# Altium footprint library MKS_Gen_Lib1.PcbLib: 7 footprints
Each footprint in its own frame and in the unit in brackets; x right, y up, seen from the top. Pads: shape width x height; smd on the part's side, far side on the other; paste and mask are expansions set on the pad; w line width, h text height; cw(c..) or ccw(c..) is an arc to the next point about the centre after c.
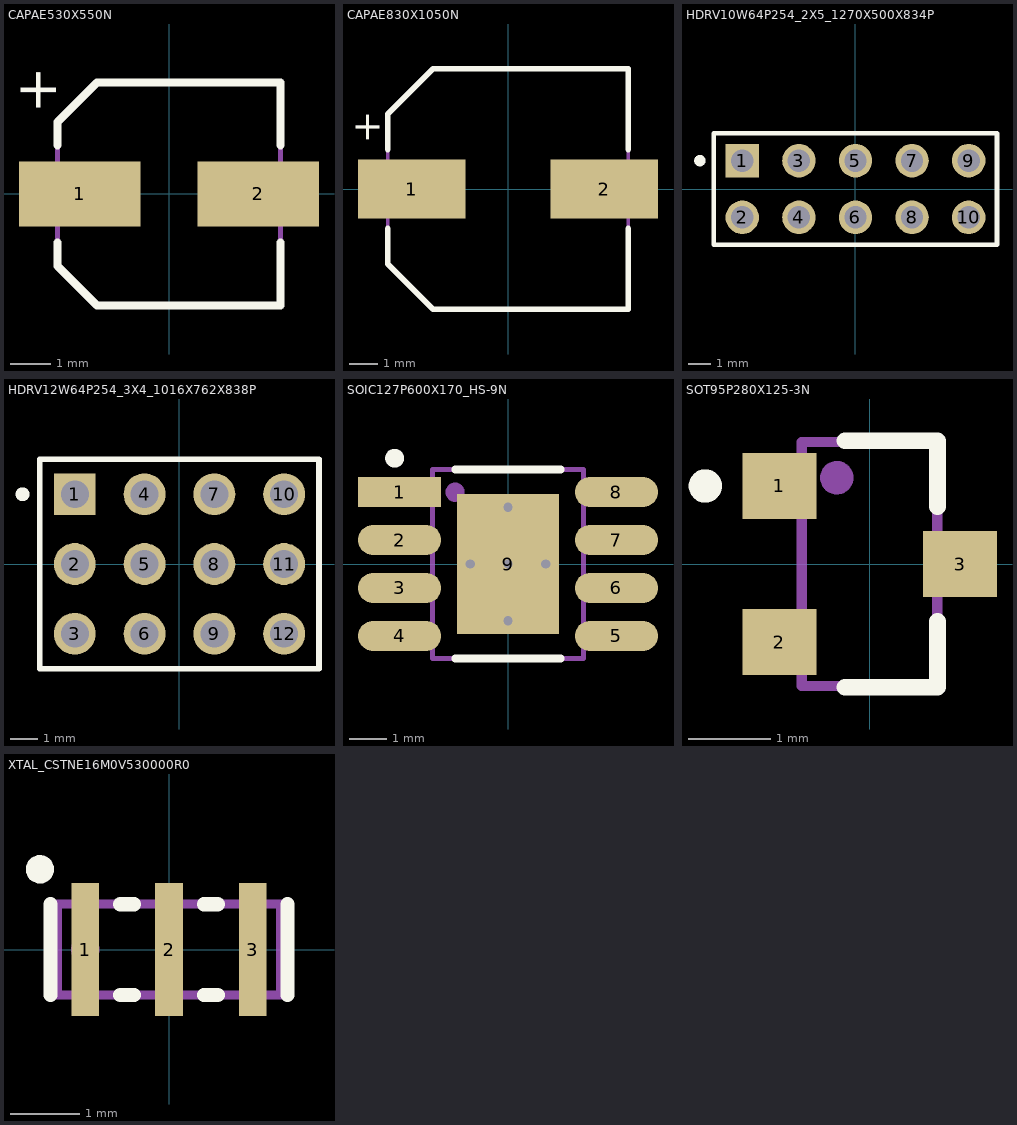
[diagram p0: the footprints below, top view; thin cyan lines are the x and y axes]

## CAPAE530X550N [mm] "Aluminum Electrolytic Capacitor, Body 5.30x5.30x5.50mm, IPC Medium Density"
height 5.5
pads (2):
  rect 3x1.6 smd: 1(-2.2,0) 2(2.2,0)
Top Overlay:
  lines w0.203: -2.75,-1.2 -2.75,-1.775 -1.775,-2.75 2.75,-2.75 2.75,-1.2 ; -2.75,1.2 -2.75,1.775 -1.775,2.75 2.75,2.75 2.75,1.2
  text "+" at -2.784,1.978 h1.02
Mechanical 1:
  text ".Designator" at 0,0.191 h1.52
Mechanical 15:
  lines w0.127: -2.75,-1.775 -2.75,1.775 -1.775,2.75 2.75,2.75 2.75,-2.75 -1.775,-2.75 -2.75,-1.775
  text "+" at -1.62,-0.318 h1.52
3D body "CAPAE530X550N.step": height 5.5, standoff 0, extent -3,-2.75 3,2.75

## CAPAE830X1050N [mm] "Aluminum Electrolytic Capacitor, Body 8.30x8.30x10.50mm, IPC Medium Density"
height 10.5
pads (2):
  rect 3.8x2.1 smd: 1(-3.4,0) 2(3.4,0)
Top Overlay:
  lines w0.203: -4.25,-1.4 -4.25,-2.65 -2.65,-4.25 4.25,-4.25 4.25,-1.4 ; -4.25,1.4 -4.25,2.65 -2.65,4.25 4.25,4.25 4.25,1.4
  text "+" at -4.534,1.603 h1.02
Mechanical 1:
  text ".Designator" at 0,0.191 h1.52
Mechanical 15:
  lines w0.127: -4.25,-2.65 -2.65,-4.25 4.25,-4.25 4.25,4.25 -2.65,4.25 -4.25,2.65 -4.25,-2.65
  text "+" at -3.144,-0.318 h1.52
3D body "CAPAE830X1050N.step": height 10.5, standoff 0, extent -4.5,-4.25 4.5,4.25

## HDRV10W64P254_2X5_1270X500X834P [mm] "CONN HEADER VERT 10POS 2.54MM"
height 8.34
pads (10):
  rect 1.5x1.5 hole 1: 1(-5.08,1.27)
  round 1.5 hole 1: 2(-5.08,-1.27) 3(-2.54,1.27) 4(-2.54,-1.27) 5(0,1.27) 6(0,-1.27) 7(2.54,1.27) 8(2.54,-1.27) 9(5.08,1.27) 10(5.08,-1.27)
Top Overlay:
  circle w0.254: c-6.985,1.27 r0.127
  lines w0.203: -6.35,-2.5 -6.35,2.5 6.35,2.5 6.35,-2.5 -6.35,-2.5
Mechanical 1:
  text ".Designator" at 0,0.191 h1.52
Mechanical 15:
  circle w0.254: c-5.08,1.27 r0.127
  lines w0.127: -6.35,-2.5 -6.35,2.5 6.35,2.5 6.35,-2.5 -6.35,-2.5
3D body "_ _ _C005DAAN-RC.STEP": height 8.35, standoff -3.04, extent -6.35,-2.5 6.35,2.5

## HDRV12W64P254_3X4_1016X762X838P [mil] "CONN HEADER VERT 12POS 2.54MM"
height 329.92
pads (12):
  rect 60x60 hole 40: 1(-150,100)
  round 60 hole 40: 2(-150,0) 3(-150,-100) 4(-50,100) 5(-50,0) 6(-50,-100) 7(50,100) 8(50,0) 9(50,-100) 10(150,100) 11(150,0) 12(150,-100)
Top Overlay:
  circle w10: c-225,100 r5
  lines w8: -200,-150 -200,150 200,150 200,-150 -200,-150
Mechanical 1:
  text ".Designator" at 0,7.51 h60
Mechanical 15:
  circle w10: c-150,100 r5
  lines w5: -200,-150 -200,150 200,150 200,-150 -200,-150
3D body "TSW-104-07-T-T.stp": height 330.5, standoff -99.5, extent -200,-150 200,150

## SOIC127P600X170_HS-9N [mm] "SOIC, 8-Leads, Body 4.90x3.90mm, Pitch 1.27mm, Thermal Pad 3.60x2.61mm, IPC Medium Density"
height 1.7
pads (9):
  rect 2.2x0.8 smd: 1(-2.87,1.905)
  oval 2.2x0.8 smd: 2(-2.87,0.635) 3(-2.87,-0.635) 4(-2.87,-1.905) 5(2.87,-1.905) 6(2.87,-0.635) 7(2.87,0.635) 8(2.87,1.905)
  rect 2.71x3.7 smd paste-2.71: 9(0,0)
via 0,0 diameter 0.5 hole 0.25
via 1,0 diameter 0.5 hole 0.25
via 0,1.5 diameter 0.5 hole 0.25
via -1,0 diameter 0.5 hole 0.25
via 0,-1.5 diameter 0.5 hole 0.25
Top Overlay:
  circle w0.25: c-3,2.8 r0.125
  lines w0.203: -1.4,-2.5 1.4,-2.5 ; -1.4,2.5 1.4,2.5
Top Paste:
  rectangle: 0.2,-1.8 1.3,-0.2
  region: -0.2,-0.2 -1.3,-0.2 -1.3,-1.8 -0.2,-1.8
  region: -0.2,1.8 -1.3,1.8 -1.3,0.2 -0.2,0.2
  rectangle: 0.2,0.2 1.3,1.8
Mechanical 1:
  text ".Designator" at 0,0.191 h1.02
Mechanical 15:
  circle w0.254: c-1.4,1.9 r0.127
  lines w0.127: -2,-2.5 -2,2.5 2,2.5 2,-2.5 -2,-2.5
3D body "SOIC127P600X170_HS-9N.step": height 1.7, standoff 0, extent -3,-2.5 3,2.5

## SOT95P280X125-3N [mm] "SOT23, 3-Leads, Body 2.92x2.80mm, Pitch 0.95mm, IPC Medium Density"
height 1.25
pads (3):
  rect 0.9x0.8 smd: 1(-1.1,0.95) 2(-1.1,-0.95) 3(1.1,0)
Top Overlay:
  circle w0.203: c-2,0.95 r0.102
  lines w0.203: -0.3,-1.5 0.825,-1.5 0.825,-0.7 ; -0.3,1.5 0.825,1.5 0.825,0.7
Mechanical 1:
  text ".Designator" at 0,0.191 h1.02
Mechanical 15:
  circle w0.203: c-0.4,1.05 r0.102
  lines w0.127: -0.825,-1.485 0.825,-1.485 0.825,1.485 -0.825,1.485 -0.825,-1.485
3D body "SOT95P280X125-3N.step": height 1.25, standoff 0, extent -1.475,-1.485 1.475,1.485

## XTAL_CSTNE16M0V530000R0 [mm] "CERAMIC RES 16.0000MHZ 15PF SMD"
height 1
pads (3):
  rect 0.4x1.9 smd: 1(-1.2,0) 2(0,0) 3(1.2,0)
Top Overlay:
  circle w0.203: c-1.85,1.15 r0.102
  lines w0.203: -1.7,-0.65 -1.7,0.65 ; -0.7,-0.65 -0.5,-0.65 ; -0.7,0.65 -0.5,0.65 ; 0.5,-0.65 0.7,-0.65 ; 0.5,0.65 0.7,0.65 ; 1.7,-0.65 1.7,0.65
Mechanical 1:
  text ".Designator" at 0,0.191 h1.02
Mechanical 15:
  circle w0.203: c-1.2,0 r0.102
  lines w0.127: -1.6,-0.65 1.6,-0.65 1.6,0.65 -1.6,0.65 -1.6,-0.65
3D body "MURATA - CSTNE.step": height 0.9, standoff 0, extent -1.6,-0.65 1.6,0.65